# Altium footprint library NODE.PcbLib: 28 footprints (part 2 of 2)
Each footprint in its own frame and in the unit in brackets; x right, y up, seen from the top. Pads: shape width x height; smd on the part's side, far side on the other; paste and mask are expansions set on the pad; w line width, h text height; cw(c..) or ccw(c..) is an arc to the next point about the centre after c.
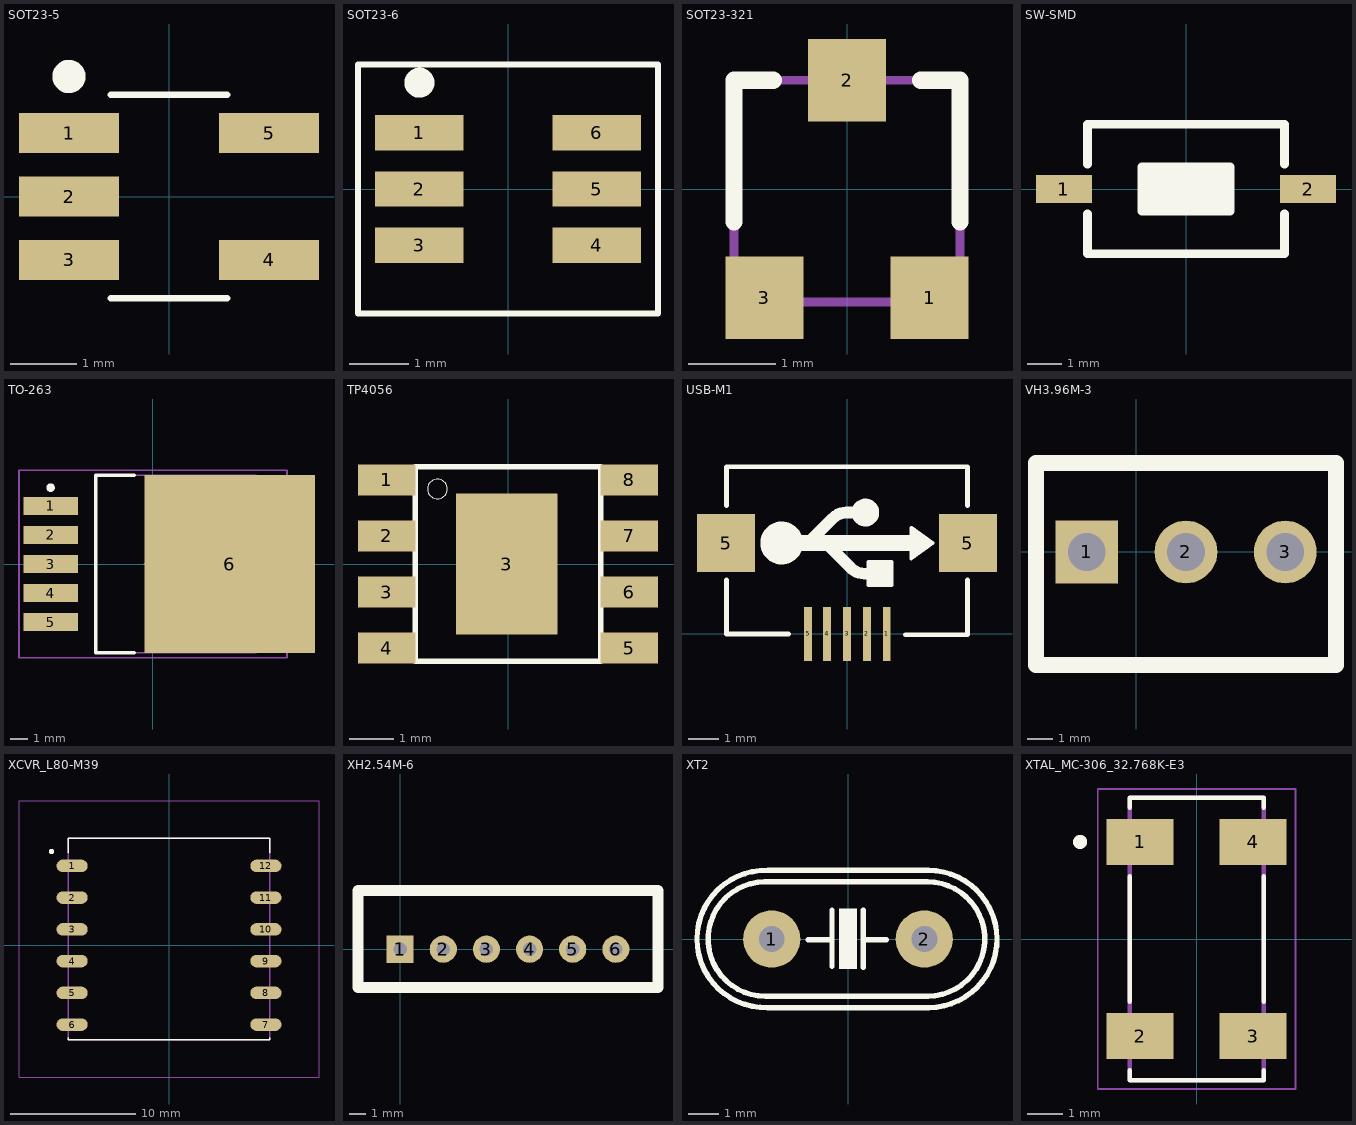
[diagram p1: the footprints below, top view; thin cyan lines are the x and y axes]

## SOT23-5 [mm] "SOT23, 5-Leads, Body 3.0x3.0mm (max), Pitch 0.95mm, IPC Medium Density"
height 1.45
pads (5):
  rect 1.5x0.6 smd: 1(-1.5,0.95) 2(-1.5,0) 3(-1.5,-0.95) 4(1.5,-0.95) 5(1.5,0.95)
Top Overlay:
  circle w0.25: c-1.5,1.8 r0.125
  lines w0.1: -0.875,-1.525 0.875,-1.525 ; -0.875,1.525 0.875,1.525
3D body: height 0.15, standoff 0, extent 1.219,-1.168 1.753,-0.711
3D body: height 0.9, standoff 0, extent 1.092,-1.168 1.219,-0.711
3D body: height 0.9, standoff 0.75, extent 0.813,-1.168 1.092,-0.711
3D body: height 0.15, standoff 0, extent 1.219,0.732 1.753,1.189
3D body: height 0.9, standoff 0, extent 1.092,0.732 1.219,1.189
3D body: height 0.9, standoff 0.75, extent 0.813,0.732 1.092,1.189
3D body: height 0.15, standoff 0, extent -1.753,-1.189 -1.219,-0.732
3D body: height 0.9, standoff 0, extent -1.219,-1.189 -1.092,-0.732
3D body: height 0.9, standoff 0.75, extent -1.092,-1.189 -0.813,-0.732
3D body: height 0.15, standoff 0, extent -1.753,-0.239 -1.219,0.218
3D body: height 0.9, standoff 0, extent -1.219,-0.239 -1.092,0.218
3D body: height 0.9, standoff 0.75, extent -1.092,-0.239 -0.813,0.218
3D body: height 1.45, standoff 0, extent -0.875,-1.525 0.875,1.525
3D body: height 0.9, standoff 0.75, extent -1.092,0.711 -0.813,1.168
3D body: height 0.9, standoff 0, extent -1.219,0.711 -1.092,1.168
3D body: height 0.15, standoff 0, extent -1.753,0.711 -1.219,1.168

## SOT23-6 [mm] "SOT23, 5-Leads, Body 3.0x3.0mm (max), Pitch 0.95mm, IPC Medium Density"
height 1.45
pads (6):
  rect 1.5x0.6 smd: 1(-1.5,0.95) 2(-1.5,0) 3(-1.5,-0.95) 4(1.5,-0.95) 5(1.5,0) 6(1.5,0.95)
Top Overlay:
  circle w0.254: c-1.5,1.8 r0.127
  circle w0.25: c-1.5,1.8 r0.125
  lines w0.102: -2.159,2.107 1.905,2.107 ; -2.54,-2.107 -2.54,2.107 2.54,2.107 2.54,-2.107 -2.54,-2.107
3D body: height 0.15, standoff 0, extent 1.219,-1.168 1.753,-0.711
3D body: height 0.9, standoff 0, extent 1.092,-1.168 1.219,-0.711
3D body: height 0.9, standoff 0.75, extent 0.813,-1.168 1.092,-0.711
3D body: height 0.15, standoff 0, extent 1.219,0.732 1.753,1.189
3D body: height 0.9, standoff 0, extent 1.092,0.732 1.219,1.189
3D body: height 0.9, standoff 0.75, extent 0.813,0.732 1.092,1.189
3D body: height 0.15, standoff 0, extent -1.753,-1.189 -1.219,-0.732
3D body: height 0.9, standoff 0, extent -1.219,-1.189 -1.092,-0.732
3D body: height 0.9, standoff 0.75, extent -1.092,-1.189 -0.813,-0.732
3D body: height 0.15, standoff 0, extent -1.753,-0.239 -1.219,0.218
3D body: height 0.9, standoff 0, extent -1.219,-0.239 -1.092,0.218
3D body: height 0.9, standoff 0.75, extent -1.092,-0.239 -0.813,0.218
3D body: height 1.45, standoff 0, extent -0.875,-1.525 0.875,1.525
3D body: height 0.9, standoff 0.75, extent -1.092,0.711 -0.813,1.168
3D body: height 0.9, standoff 0, extent -1.219,0.711 -1.092,1.168
3D body: height 0.15, standoff 0, extent -1.753,0.711 -1.219,1.168
3D body: height 0.9, standoff 0.75, extent 0.813,-0.218 1.092,0.239
3D body: height 0.9, standoff 0, extent 1.092,-0.218 1.219,0.239
3D body: height 0.15, standoff 0, extent 1.219,-0.218 1.753,0.239

## SOT23-321 [mm]
height 1.1
pads (3):
  rect 0.9x0.95 smd mask+0: 1(0.95,-1.25)
  rect 0.9x0.95 smd: 2(0,1.25) 3(-0.95,-1.25)
Top Overlay:
  lines w0.2: -1.3,-0.375 -1.3,1.25 -0.85,1.25 ; 0.85,1.25 1.3,1.25 1.3,-0.375
Mechanical 7:
  rectangle: -0.3,1.25 0.3,1.5
  region: -0.625,-1.275 -1.225,-1.275 -1.225,-1.525 -0.625,-1.525
  region: 1.225,-1.275 0.625,-1.275 0.625,-1.525 1.225,-1.525
  lines w0.1: -1.3,-1.3 -1.3,1.25 1.3,1.25 1.3,-1.3 -1.3,-1.3
  text ".Comment" at -1.2,0.325 h0.5
  text ".Designator" at -1.2,0.75 h0.5
3D body "SW3DPS-SOT-23-DEFAULT.STEP": height 1.06, standoff -0.04, extent -1.524,-1.23 1.476,1.27

## SW-SMD [mm] "Switch SMD type"
height 5.08
pads (2):
  rect 1.6x0.8 smd: 1(-3.5,0) 2(3.5,0)
Top Overlay:
  rectangle: -1.27,-0.635 1.27,0.635
  lines w0.254: -2.819,-0.711 -2.819,-1.854 2.819,-1.854 2.819,-0.711 ; -2.819,0.711 -2.819,1.854 2.819,1.854 2.819,0.711 ; -1.27,-0.635 -1.27,0.635 1.27,0.635 1.27,-0.635 -1.27,-0.635
3D body "User Library-Button-SMD.step": height 2.5, standoff 0, extent -3.05,-1.85 3.05,1.85

## TO-263 [mm]
height 5.08
pads (6):
  rect 3.2x1.05 smd: 1(-6,3.4) 2(-6,1.7) 3(-6,0) 4(-6,-1.7) 5(-6,-3.4)
  rect 10x10.45 smd: 6(4.5,0)
Top Overlay:
  circle w0.25: c-6,4.475 r0.125
  lines w0.2: -1.1,-5.2 -3.35,-5.2 -3.35,5.2 -1.1,5.2
Mechanical 13:
  lines w0.1: -3.35,-5.2 -3.35,5.2 6.05,5.2 6.05,-5.2 -3.35,-5.2
Mechanical 15:
  lines w0.1: -0.5,0 0.5,0 ; 0,-0.5 0,0.5 ; -7.85,-5.5 -7.85,5.5 7.85,5.5 7.85,-5.5 -7.85,-5.5
3D body: height 0.5, standoff 0, extent 6.05,-5.2 7.569,5.2
3D body: height 0.5, standoff 0, extent -6.566,-3.95 -4.305,-2.857
3D body: height 2, standoff 0, extent -4.953,-3.95 -4.293,-2.857
3D body: height 2, standoff 1.5, extent -4.953,-3.937 -3.251,-2.845
3D body: height 0.5, standoff 0, extent -6.54,-0.597 -4.28,0.495
3D body: height 2, standoff 0, extent -4.928,-0.597 -4.267,0.495
3D body: height 2, standoff 1.5, extent -4.928,-0.584 -3.226,0.508
3D body: height 2, standoff 1.5, extent -4.94,-2.273 -3.238,-1.181
3D body: height 2, standoff 0, extent -4.94,-2.286 -4.28,-1.194
3D body: height 0.5, standoff 0, extent -6.553,-2.286 -4.293,-1.194
3D body: height 0.5, standoff 0, extent -6.579,1.143 -4.318,2.235
3D body: height 2, standoff 0, extent -4.966,1.143 -4.305,2.235
3D body: height 2, standoff 1.5, extent -4.966,1.156 -3.264,2.248
3D body: height 2, standoff 1.5, extent -4.953,2.845 -3.251,3.937
3D body: height 2, standoff 0, extent -4.953,2.832 -4.293,3.924
3D body: height 0.5, standoff 0, extent -6.566,2.832 -4.305,3.924
3D body: height 4.65, standoff 0, extent -3.35,-5.2 6.05,5.2

## TP4056 [mm]
height 5.08
pads (9):
  rect 1.3x0.7 smd: 1(-2.75,1.905) 2(-2.75,0.635) 3(-2.75,-0.635) 4(-2.75,-1.905) 5(2.75,-1.905) 6(2.75,-0.635) 7(2.75,0.635) 8(2.75,1.905)
  rect 2.3x3.2 smd: 3(-0.025,0)
Top Overlay:
  circle w0: c-1.6,1.7 r0.224
  lines w0.127: -2.1,-2.2 -2.1,2.2 2.1,2.2 2.1,-2.2 -2.1,-2.2
3D body "TP4056 --3DModel-STEP-86487.STEP": height 1.75, standoff 0, extent -3.127,-2.45 2.873,2.45

## USB-M1 [mil]
height 153.54
pads (7):
  rect 10x70 smd: 1(51.18,0) 2(25.59,0) 3(0,0) 4(-25.59,0) 5(-50,0)
  rect 74.8x74.8 smd: 5(-155.51,116.84) 5(155.51,116.84)
Top Overlay:
  circle w20: c23.56,156.21 r7.87
  circle w35: c-84.07,117 r10
  region: 57.03,62.87 27.5,62.87 27.5,92.39 57.03,92.39
  region: 110.18,117 82.62,97.31 82.62,136.69
  lines w5: 27.5,62.87 57.03,62.87 57.03,92.39 27.5,92.39 27.5,62.87 ; 82.62,97.31 82.62,136.69 110.18,117 82.62,97.31
  lines w6: -155,69.8 -155,0 -75,0 ; -155,164.84 -155,215 155,215 155,164.84 ; 75,-1 155,-1 155,69.8
  lines w15: -52.85,114.46 -18.48,148.83 cw(c-0.65,131) -0.65,156.21 22.5,156.21 ; -24.7,114.54 4.83,85.01 ccw(c22.66,102.84) 22.66,77.63 42.5,77.63
  lines w20: -82.5,117 92.5,117
3D body "Micro USB.STP": height 106.7, standoff -9.04, extent -156.58,4.51 157.59,218.29

## VH3.96M-3 [mm]
height 5.08
pads (3):
  rect 2.5x2.5 hole 1.5: 1(-1.98,0)
  round 2.5 hole 1.5: 2(1.98,0) 3(5.94,0)
Top Overlay:
  lines w0.635: -4,-4.5 7.96,-4.5 7.96,3.54 -4,3.54 -4,-4.5
3D body "VH3.96M-3.STEP": height 10.26, standoff -3.19, extent -4.08,-4.49 7.92,3.88

## XCVR_L80-M39 [mm]
height 5.08
pads (12):
  oval 2.5x1 smd paste-2: 1(-7.75,6.35) 2(-7.75,3.81) 3(-7.75,1.27) 4(-7.75,-1.27) 5(-7.75,-3.81) 6(-7.75,-6.35) 7(7.75,-6.35) 8(7.75,-3.81) 9(7.75,-1.27) 10(7.75,1.27) 11(7.75,3.81) 12(7.75,6.35)
Top Overlay:
  circle w0.2: c-9.4,7.5 r0.1
  lines w0.127: -8.075,-7.4 -8.075,-7.575 8.075,-7.575 8.075,-7.4 ; -8.075,7.4 -8.075,8.575 8.075,8.575 8.075,7.4
Top Paste:
  drawing of 12 lines, arcs and shapes, not listed
Mechanical 13:
  circle w0.2: c-9.4,7.5 r0.1
  lines w0.127: -8.075,-7.575 -8.075,8.575 8.075,8.575 8.075,-7.575 -8.075,-7.575
Mechanical 15:
  lines w0.05: -12,-10.575 -12,11.575 12,11.575 12,-10.575 -12,-10.575
3D body "step_temp.STEP": height 7.05, standoff 0, extent -8,-8 8,8

## XH2.54M-6 [mm]
height 5.08
pads (6):
  rect 1.6x1.6 hole 0.8: 1(0,0)
  round 1.6 hole 0.8: 2(2.54,0) 3(5.08,0) 4(7.62,0) 5(10.16,0) 6(12.7,0)
Top Overlay:
  lines w0.635: -2.48,-2.26 15.18,-2.26 15.18,3.46 -2.48,3.46 -2.48,-2.26
3D body "XH2.54M-6.STEP": height 6.91, standoff -1.82, extent -2.48,-2.26 15.18,3.48

## XT2 [mil] "Footpin for Crystal 2 pin"
height 200
pads (2):
  round 75 hole 34: 1(-100,0) 2(100,0)
Top Overlay:
  region: 11.5,40 11.5,-39 -11.5,-39 -11.5,40
  lines w7: -109,75 ccw(c-108.5,0) -108.27,-75 ; -106.97,-75 103.03,-75 ; -105.97,75 104.03,75 ; -105.02,-90 105.91,-90 ccw(c105.31,0) 105.03,90 -104.97,90.01 ccw(c-108,0.06) -105.02,-89.89 ; -52,-1 -21,-1 ; -21,-36 -21,38 ; 20,-37 20,38 ; 20,-1 50,-1 ; 104,75 cw(c104.23,0) 104.73,-75
3D body "SW3dPS-HP49US.STEP": height 137.8, standoff -157.48, extent -233.43,-93.07 213.43,90

## XTAL_MC-306_32.768K-E3 [mm]
height 2.54
pads (4):
  rect 1.9x1.3 smd: 1(-1.6,2.75) 2(-1.6,-2.75) 3(1.6,-2.75) 4(1.6,2.75)
Top Overlay:
  circle w0.2: c-3.3,2.75 r0.1
  lines w0.127: -1.9,-3.72 -1.9,-4 1.9,-4 1.9,-3.72 ; -1.9,-1.78 -1.9,1.78 ; -1.9,3.72 -1.9,4 1.9,4 1.9,3.72 ; 1.9,-1.78 1.9,1.78
Mechanical 13:
  circle w0.2: c-3.3,2.75 r0.1
  lines w0.127: -1.9,-4 1.9,-4 1.9,4 -1.9,4 -1.9,-4
Mechanical 15:
  lines w0.05: -2.8,-4.25 2.8,-4.25 2.8,4.25 -2.8,4.25 -2.8,-4.25
3D body "step_temp.STEP": height 2.54, standoff 0, extent -1.85,-4 1.85,4